# Altium schematic symbol library Eln1Project.SchLib: 1 symbol
Pins are listed as number, name and electrical type; pins without a type are passive.

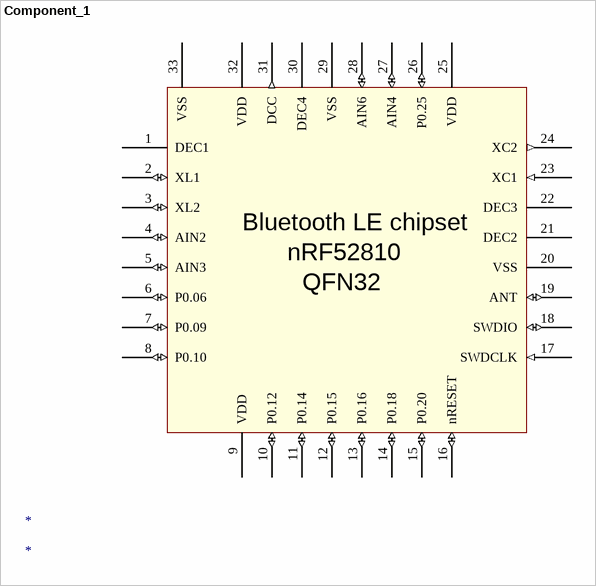
[diagram p0: symbol Component_1]

## Component_1
designator *
footprint QFN50P500X500X90_HS-33N (QFN, 32-Leads, Body 5,00x5,00mm, Pitch 0.50mm, Thermal Pad 3,50x3,50mm, IPC Medium Density)
pins: 1 DEC1 (power), 2 XL1 (io), 3 XL2 (io), 4 AIN2 (io), 5 AIN3 (io), 6 P0.06 (io), 7 P0.09 (io), 8 P0.10 (io), 9 VDD (power), 10 P0.12 (io), 11 P0.14 (io), 12 P0.15 (io), 13 P0.16 (io), 14 P0.18 (io), 15 P0.20 (io), 16 nRESET (io), 17 SWDCLK (in), 18 SWDIO (io), 19 ANT (io), 20 VSS (power), 21 DEC2 (power), 22 DEC3 (power), 23 XC1 (in), 24 XC2 (out), 25 VDD (power), 26 P0.25 (io), 27 AIN4 (io), 28 AIN6 (io), 29 VSS (power), 30 DEC4 (power), 31 DCC (out), 32 VDD (power), 33 VSS (power)
text: Bluetooth LE chipset; nRF52810; QFN32